# EAGLE library part RN-42 (library Hoektronics)
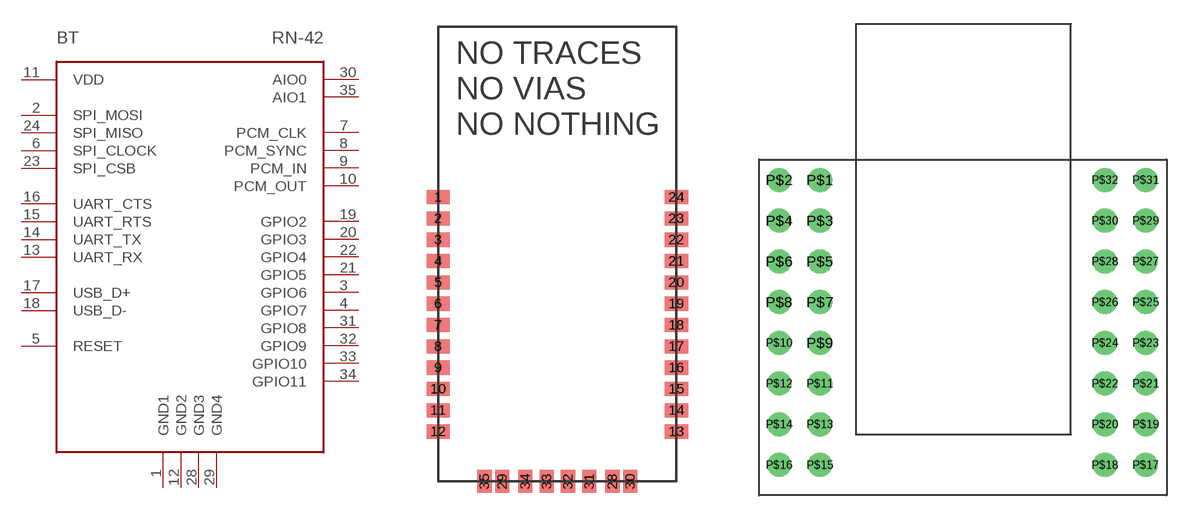
[diagram p11: symbol with the pads of RN-42; footprints RN-42, RN-42-CARRIER]

Designator prefix BT

## RN-42SMT  [RN-42]
1  GND1
2  SPI_MOSI
3  GPIO6
4  GPIO7
5  RESET
6  SPI_CLOCK
7  PCM_CLK
8  PCM_SYNC
9  PCM_IN
10  PCM_OUT
11  VDD
12  GND2
13  UART_RX
14  UART_TX
15  UART_RTS
16  UART_CTS
17  USB_D+
18  USB_D-
19  GPIO2
20  GPIO3
21  GPIO5
22  GPIO4
23  SPI_CSB
24  SPI_MISO
28  GND3
29  GND4
30  AIO0
31  GPIO8
32  GPIO9
33  GPIO10
34  GPIO11
35  AIO1

## RN-42PTC  [RN-42-CARRIER]
P$1  GND1
P$2  SPI_MOSI
P$3  GPIO6
P$4  GPIO7
P$5  RESET
P$6  SPI_CLOCK
P$7  PCM_CLK
P$8  PCM_SYNC
P$9  PCM_IN
P$10  PCM_OUT
P$11  VDD
P$12  GND2
P$13  AIO1
P$14  GND3
P$15  GPIO11
P$16  GPIO10
P$17  GPIO9
P$18  GPIO8
P$19  GND4
P$20  AIO0
P$21  UART_RX
P$22  UART_TX
P$23  UART_RTS
P$24  UART_CTS
P$25  USB_D+
P$26  USB_D-
P$27  GPIO2
P$28  GPIO3
P$29  GPIO5
P$30  GPIO4
P$31  SPI_CSB
P$32  SPI_MISO

## Footprint RN-42 (pad centres in mm)
smd 1.3 x 0.8: 1 0,16; 2 0,14.8; 3 0,13.6; 4 0,12.4; 5 0,11.2; 6 0,10; 7 0,8.8; 8 0,7.6; 9 0,6.4; 10 0,5.2; 11 0,4; 12 0,2.8; 13 13.4,2.8; 14 13.4,4; 15 13.4,5.2; 16 13.4,6.4; 17 13.4,7.6; 18 13.4,8.8; 19 13.4,10; 20 13.4,11.2; 21 13.4,12.4; 22 13.4,13.6; 23 13.4,14.8; 24 13.4,16
smd 0.8 x 1.3: 28 9.8,0; 29 3.6,0; 30 10.8,0; 31 8.5,0; 32 7.3,0; 33 6.1,0; 34 4.9,0; 35 2.6,0

## Footprint RN-42-CARRIER (pad centres in mm)
drill 1: P$1 -2.237,15.875; P$2 -4.777,15.875; P$3 -2.237,13.335; P$4 -4.777,13.335; P$5 -2.237,10.795; P$6 -4.777,10.795; P$7 -2.237,8.255; P$8 -4.777,8.255; P$9 -2.237,5.715; P$10 -4.777,5.715; P$11 -2.237,3.175; P$12 -4.777,3.175; P$13 -2.237,0.635; P$14 -4.777,0.635; P$15 -2.237,-1.905; P$16 -4.777,-1.905; P$17 18.067,-1.905; P$18 15.527,-1.905; P$19 18.067,0.635; P$20 15.527,0.635; P$21 18.067,3.175; P$22 15.527,3.175; P$23 18.067,5.715; P$24 15.527,5.715; P$25 18.067,8.255; P$26 15.527,8.255; P$27 18.067,10.795; P$28 15.527,10.795; P$29 18.067,13.335; P$30 15.527,13.335; P$31 18.067,15.875; P$32 15.527,15.875